# EAGLE library part THS7314 (library sj_ic)
3-Channel SDTV Video Amplifier With 5th-Order Filters and 6-dB Gain
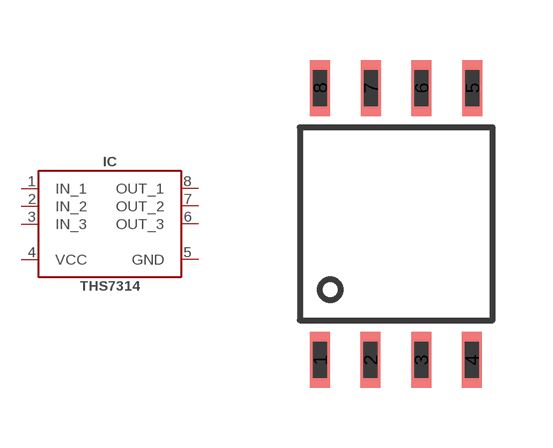
[diagram p11: symbol with the pads of SOP08; footprint SOP08]

Designator prefix IC

## THS7314_SOP8  [SOP08]
1  IN_1
2  IN_2
3  IN_3
4  VCC  pwr
5  GND  pwr
6  OUT_3
7  OUT_2
8  OUT_1

## Footprint SOP08 (pad centres in mm)
8pin Small Outline Package
smd 0.5 x 1.4: 1 -1.905,-3.404; 2 -0.645,-3.404; 3 0.625,-3.404; 4 1.895,-3.404; 5 1.905,3.404; 6 0.635,3.404; 7 -0.635,3.404; 8 -1.905,3.404